# Altium integrated library Sensor.IntLib: 5 symbols
Pins are listed as number, name and electrical type; pins without a type are passive.

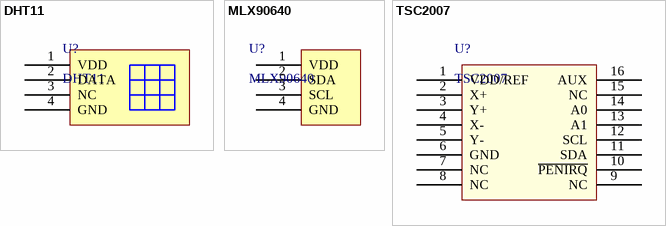
[diagram p0: symbols DHT11 to TSC2007]

## DHT11
designator U?
温湿度传感器
footprint DHT11
pins: 1 VDD, 2 DATA, 3 NC, 4 GND

## MLX90640
designator U?
footprint MLX90640
pins: 1 VDD, 2 SDA, 3 SCL, 4 GND

## TSC2007
designator U?
1.2V to 3.6V, 12-Bit, Nanopower, 4-Wire Micro TOUCH SCREEN CONTROLLER with I2C™ Interface
footprint SSOP-16_4.4x5mm_P0.65 (TSOP, 16-Leads, Body 5.00x4.40mm, Pitch 0.65mm, Thermal Pad 3.30x3.30mm, IPC Medium Density)
pins: 1 VDD/REF, 2 X+, 3 Y+, 4 X-, 5 Y-, 6 GND, 7 NC, 8 NC, 9 NC, 10 ~{PENIRQ}, 11 SDA, 12 SCL, 13 A1, 14 A0, 15 NC, 16 AUX


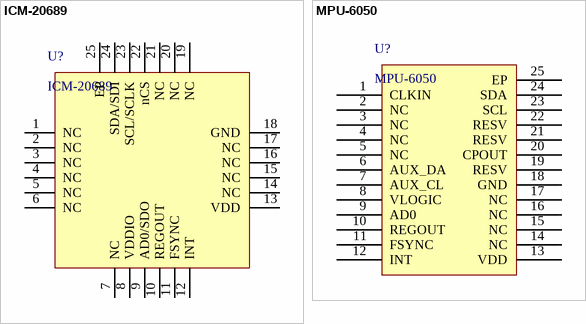
[diagram p1: symbols ICM-20689 to MPU-6050]

## ICM-20689
designator U?
footprint QFN-24-1EP_4x4_P0.5mm_EP2.7x2.7mm (QFN, 24-Leads, Body 4.00x4.00mm, Pitch 0.50mm, Thermal Pad 2.7x2.7mm, IPC Low Density)
pins: 1 NC, 2 NC, 3 NC, 4 NC, 5 NC, 6 NC, 7 NC, 8 VDDIO, 9 AD0/SDO, 10 REGOUT, 11 FSYNC, 12 INT, 13 VDD, 14 NC, 15 NC, 16 NC, 17 NC, 18 GND, 19 NC, 20 NC, 21 NC, 22 nCS, 23 SCL/SCLK, 24 SDA/SDI, 25 EP

## MPU-6050
designator U?
InvenSense 6-Axis Motion Sensor, Gyroscope, Accelerometer, I2C
footprint QFN-24-1EP_4x4_P0.5mm_EP2.45x2.45mm (QFN, 24-Leads, Body 4.00x4.00mm, Pitch 0.50mm, Thermal Pad 2.45x2.45mm, IPC Low Density)
pins: 1 CLKIN, 2 NC, 3 NC, 4 NC, 5 NC, 6 AUX_DA, 7 AUX_CL, 8 VLOGIC, 9 AD0, 10 REGOUT, 11 FSYNC, 12 INT, 13 VDD, 14 NC, 15 NC, 16 NC, 17 NC, 18 GND, 19 RESV, 20 CPOUT, 21 RESV, 22 RESV, 23 SCL, 24 SDA, 25 EP